# Altium footprint library STM32F429BIT6.PcbLib: 1 footprints
Each footprint in its own frame and in the unit in brackets; x right, y up, seen from the top. Pads: shape width x height; smd on the part's side, far side on the other; paste and mask are expansions set on the pad; w line width, h text height; cw(c..) or ccw(c..) is an arc to the next point about the centre after c.
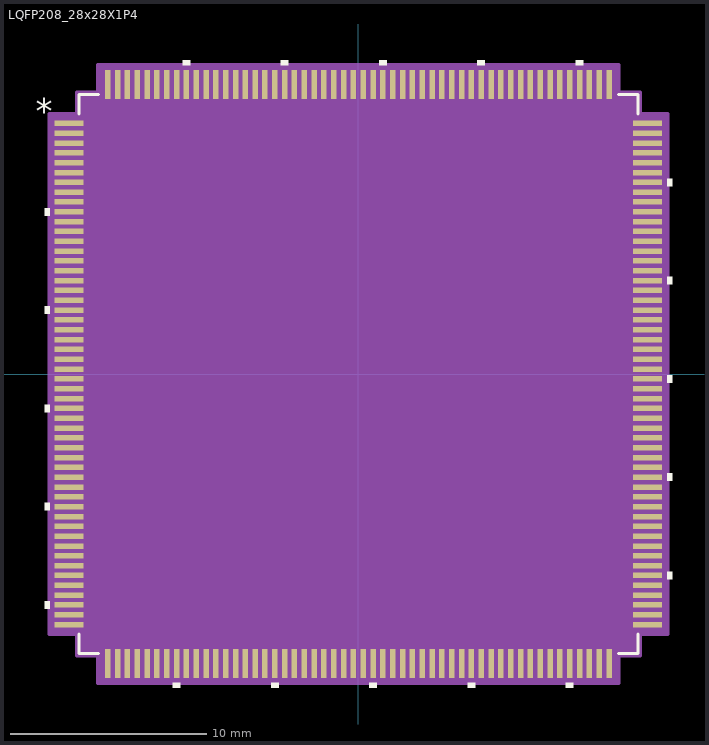
[diagram p0: the footprint, top view; thin cyan lines are the x and y axes]

## LQFP208_28x28X1P4 [mil]
pads (208):
  rect 58x11 smd paste+0 mask+0: 1(-579.5,501.97) 2(-579.5,482.28) 3(-579.5,462.6) 4(-579.5,442.91) 5(-579.5,423.23) 6(-579.5,403.54) 7(-579.5,383.86) 8(-579.5,364.17) 9(-579.5,344.49) 10(-579.5,324.8) 11(-579.5,305.12) 12(-579.5,285.43) 13(-579.5,265.75) 14(-579.5,246.06) 15(-579.5,226.38) 16(-579.5,206.69) 17(-579.5,187.01) 18(-579.5,167.32) 19(-579.5,147.64) 20(-579.5,127.95) 21(-579.5,108.27) 22(-579.5,88.58) 23(-579.5,68.9) 24(-579.5,49.21) 25(-579.5,29.53) 26(-579.5,9.84) 27(-579.5,-9.84) 28(-579.5,-29.53) 29(-579.5,-49.21) 30(-579.5,-68.9) 31(-579.5,-88.58) 32(-579.5,-108.27) 33(-579.5,-127.95) 34(-579.5,-147.64) 35(-579.5,-167.32) 36(-579.5,-187.01) 37(-579.5,-206.69) 38(-579.5,-226.38) 39(-579.5,-246.06) 40(-579.5,-265.75) 41(-579.5,-285.43) 42(-579.5,-305.12) 43(-579.5,-324.8) 44(-579.5,-344.49) 45(-579.5,-364.17) 46(-579.5,-383.86) 47(-579.5,-403.54) 48(-579.5,-423.23) 49(-579.5,-442.91) 50(-579.5,-462.6) 51(-579.5,-482.28) 52(-579.5,-501.97) 105(579.5,-501.97) 106(579.5,-482.28) 107(579.5,-462.6) 108(579.5,-442.91) 109(579.5,-423.23) 110(579.5,-403.54) 111(579.5,-383.86) 112(579.5,-364.17) 113(579.5,-344.49) 114(579.5,-324.8) 115(579.5,-305.12) 116(579.5,-285.43) 117(579.5,-265.75) 118(579.5,-246.06) 119(579.5,-226.38) 120(579.5,-206.69) 121(579.5,-187.01) 122(579.5,-167.32) 123(579.5,-147.64) 124(579.5,-127.95) 125(579.5,-108.27) 126(579.5,-88.58) 127(579.5,-68.9) 128(579.5,-49.21) 129(579.5,-29.53) 130(579.5,-9.84) 131(579.5,9.84) 132(579.5,29.53) 133(579.5,49.21) 134(579.5,68.9) 135(579.5,88.58) 136(579.5,108.27) 137(579.5,127.95) 138(579.5,147.64) 139(579.5,167.32) 140(579.5,187.01) 141(579.5,206.69) 142(579.5,226.38) 143(579.5,246.06) 144(579.5,265.75) 145(579.5,285.43) 146(579.5,305.12) 147(579.5,324.8) 148(579.5,344.49) 149(579.5,364.17) 150(579.5,383.86) 151(579.5,403.54) 152(579.5,423.23) 153(579.5,442.91) 154(579.5,462.6) 155(579.5,482.28) 156(579.5,501.97)
  rect 11x58 smd paste+0 mask+0: 53(-501.97,-579.5) 54(-482.28,-579.5) 55(-462.6,-579.5) 56(-442.91,-579.5) 57(-423.23,-579.5) 58(-403.54,-579.5) 59(-383.86,-579.5) 60(-364.17,-579.5) 61(-344.49,-579.5) 62(-324.8,-579.5) 63(-305.12,-579.5) 64(-285.43,-579.5) 65(-265.75,-579.5) 66(-246.06,-579.5) 67(-226.38,-579.5) 68(-206.69,-579.5) 69(-187.01,-579.5) 70(-167.32,-579.5) 71(-147.64,-579.5) 72(-127.95,-579.5) 73(-108.27,-579.5) 74(-88.58,-579.5) 75(-68.9,-579.5) 76(-49.21,-579.5) 77(-29.53,-579.5) 78(-9.84,-579.5) 79(9.84,-579.5) 80(29.53,-579.5) 81(49.21,-579.5) 82(68.9,-579.5) 83(88.58,-579.5) 84(108.27,-579.5) 85(127.95,-579.5) 86(147.64,-579.5) 87(167.32,-579.5) 88(187.01,-579.5) 89(206.69,-579.5) 90(226.38,-579.5) 91(246.06,-579.5) 92(265.75,-579.5) 93(285.43,-579.5) 94(305.12,-579.5) 95(324.8,-579.5) 96(344.49,-579.5) 97(364.17,-579.5) 98(383.86,-579.5) 99(403.54,-579.5) 100(423.23,-579.5) 101(442.91,-579.5) 102(462.6,-579.5) 103(482.28,-579.5) 104(501.97,-579.5) 157(501.97,579.5) 158(482.28,579.5) 159(462.6,579.5) 160(442.91,579.5) 161(423.23,579.5) 162(403.54,579.5) 163(383.86,579.5) 164(364.17,579.5) 165(344.49,579.5) 166(324.8,579.5) 167(305.12,579.5) 168(285.43,579.5) 169(265.75,579.5) 170(246.06,579.5) 171(226.38,579.5) 172(206.69,579.5) 173(187.01,579.5) 174(167.32,579.5) 175(147.64,579.5) 176(127.95,579.5) 177(108.27,579.5) 178(88.58,579.5) 179(68.9,579.5) 180(49.21,579.5) 181(29.53,579.5) 182(9.84,579.5) 183(-9.84,579.5) 184(-29.53,579.5) 185(-49.21,579.5) 186(-68.9,579.5) 187(-88.58,579.5) 188(-108.27,579.5) 189(-127.95,579.5) 190(-147.64,579.5) 191(-167.32,579.5) 192(-187.01,579.5) 193(-206.69,579.5) 194(-226.38,579.5) 195(-246.06,579.5) 196(-265.75,579.5) 197(-285.43,579.5) 198(-305.12,579.5) 199(-324.8,579.5) 200(-344.49,579.5) 201(-364.17,579.5) 202(-383.86,579.5) 203(-403.54,579.5) 204(-423.23,579.5) 205(-442.91,579.5) 206(-462.6,579.5) 207(-482.28,579.5) 208(-501.97,579.5)
Top Overlay:
  region: -618.5,332.3 -628.5,332.3 -628.5,317.3 -618.5,317.3
  region: -618.5,135.45 -628.5,135.45 -628.5,120.45 -618.5,120.45
  region: -618.5,-61.4 -628.5,-61.4 -628.5,-76.4 -618.5,-76.4
  region: -618.5,-258.25 -628.5,-258.25 -628.5,-273.25 -618.5,-273.25
  region: -618.5,-455.1 -628.5,-455.1 -628.5,-470.1 -618.5,-470.1
  region: -356.67,-618.5 -371.67,-618.5 -371.67,-628.5 -356.67,-628.5
  region: -159.82,-618.5 -174.82,-618.5 -174.82,-628.5 -159.82,-628.5
  region: 37.03,-618.5 22.03,-618.5 22.03,-628.5 37.03,-628.5
  region: 233.88,-618.5 218.88,-618.5 218.88,-628.5 233.88,-628.5
  region: 430.73,-618.5 415.73,-618.5 415.73,-628.5 430.73,-628.5
  region: 618.5,-396.04 628.5,-396.04 628.5,-411.04 618.5,-411.04
  region: 618.5,-199.19 628.5,-199.19 628.5,-214.19 618.5,-214.19
  region: 618.5,-2.34 628.5,-2.34 628.5,-17.34 618.5,-17.34
  region: 618.5,194.51 628.5,194.51 628.5,179.51 618.5,179.51
  region: 618.5,391.36 628.5,391.36 628.5,376.36 618.5,376.36
  region: 450.41,618.5 435.41,618.5 435.41,628.5 450.41,628.5
  region: 253.56,618.5 238.56,618.5 238.56,628.5 253.56,628.5
  region: 56.71,618.5 41.71,618.5 41.71,628.5 56.71,628.5
  region: -140.14,618.5 -155.14,618.5 -155.14,628.5 -140.14,628.5
  region: -336.99,618.5 -351.99,618.5 -351.99,628.5 -336.99,628.5
  lines w6: -560,-520.57 -560,-560 -520.57,-560 ; -560,520.57 -560,560 -520.57,560 ; 520.57,-560 560,-560 560,-520.57 ; 520.57,560 560,560 560,520.57
  text "*" at -646,501.81 h50
Mechanical 13:
  drawing of 837 lines, arcs and shapes, not listed
  text "*" at -552.5,486.81 h50
Mechanical 15:
  region: -521.97,-565 -565,-565 -565,-521.97 -620,-521.97 -620,521.97 -565,521.97 -565,565 -521.97,565 -521.97,620 521.97,620 521.97,565 565,565 565,521.97 620,521.97 620,-521.97 565,-521.97 565,-565 521.97,-565 521.97,-620 -521.97,-620
  lines w6: -620,-521.97 -565,-521.97 -565,-565 -521.97,-565 -521.97,-620 521.97,-620 521.97,-565 565,-565 565,-521.97 620,-521.97 620,521.97 565,521.97 565,565 521.97,565 521.97,620 -521.97,620 -521.97,565 -565,565 -565,521.97 -620,521.97 -620,-521.97
3D body "LQFP208_28x28X1P4.step": height 63.11, standoff 0, extent -594.49,-594.49 594.49,594.49